# Altium footprint library Motor.PcbLib: 1 footprints
Each footprint in its own frame and in the unit in brackets; x right, y up, seen from the top. Pads: shape width x height; smd on the part's side, far side on the other; paste and mask are expansions set on the pad; w line width, h text height; cw(c..) or ccw(c..) is an arc to the next point about the centre after c.
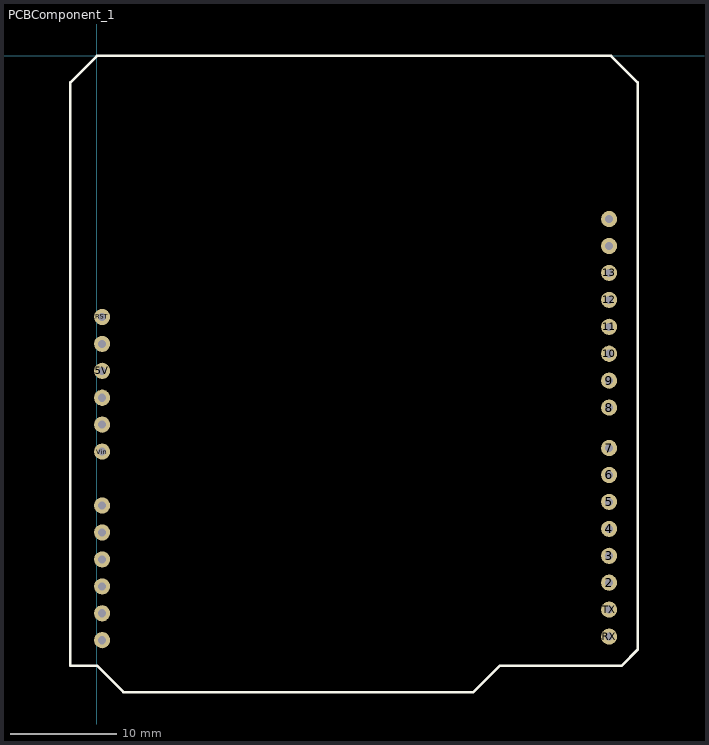
[diagram p0: the footprint, top view; thin cyan lines are the x and y axes]

## PCBComponent_1 [mil]
pads (28):
  round 60 hole 30: 0Analog(19.68,-1669.29) 1Analog(19.68,-1769.29) 2(1901.57,-1955.91) 2Analog(19.68,-1869.29) 3(1901.57,-1855.91) 3.3V(19.68,-1069.29) 3Analog(19.68,-1969.29) 4(1901.57,-1755.91) 4Analog(19.68,-2069.29) 5(1901.57,-1655.91) 5Analog(19.68,-2169.29) 5V(19.68,-1169.29) 6(1901.57,-1555.91) 7(1901.57,-1455.91) 8(1901.57,-1305.91) 9(1901.57,-1205.91) 10(1901.57,-1105.91) 11(1901.57,-1005.91) 12(1901.57,-905.91) 13(1901.57,-805.91) AREF(1901.57,-605.91) GND0(19.68,-1369.29) GND1(19.68,-1269.29) GND2(1901.57,-705.91) RST(19.68,-969.29) RX(1901.57,-2155.91) TX(1901.57,-2055.91) Vin(19.68,-1469.29)
Top Overlay:
  lines w10: -98.43,-2263.78 -98.43,-2244.09 -98.43,-98.43 0,0 1909.45,0 2007.87,-98.43 2007.87,-2204.72 1948.82,-2263.78 1496.06,-2263.78 1397.64,-2362.2 98.43,-2362.2 0,-2263.78 -98.43,-2263.78
3D body "Monster Moto Shield Vnh2sp30 Puente H v46.step": height 429.13, standoff 0, extent -92.51,-2364.17 2005.91,-5.91